# Altium footprint library 最新MT7688A测试板开发板库文件(AD打开).PcbLib: 28 footprints (part 2 of 2)
Each footprint in its own frame and in the unit in brackets; x right, y up, seen from the top. Pads: shape width x height; smd on the part's side, far side on the other; paste and mask are expansions set on the pad; w line width, h text height; cw(c..) or ccw(c..) is an arc to the next point about the centre after c.
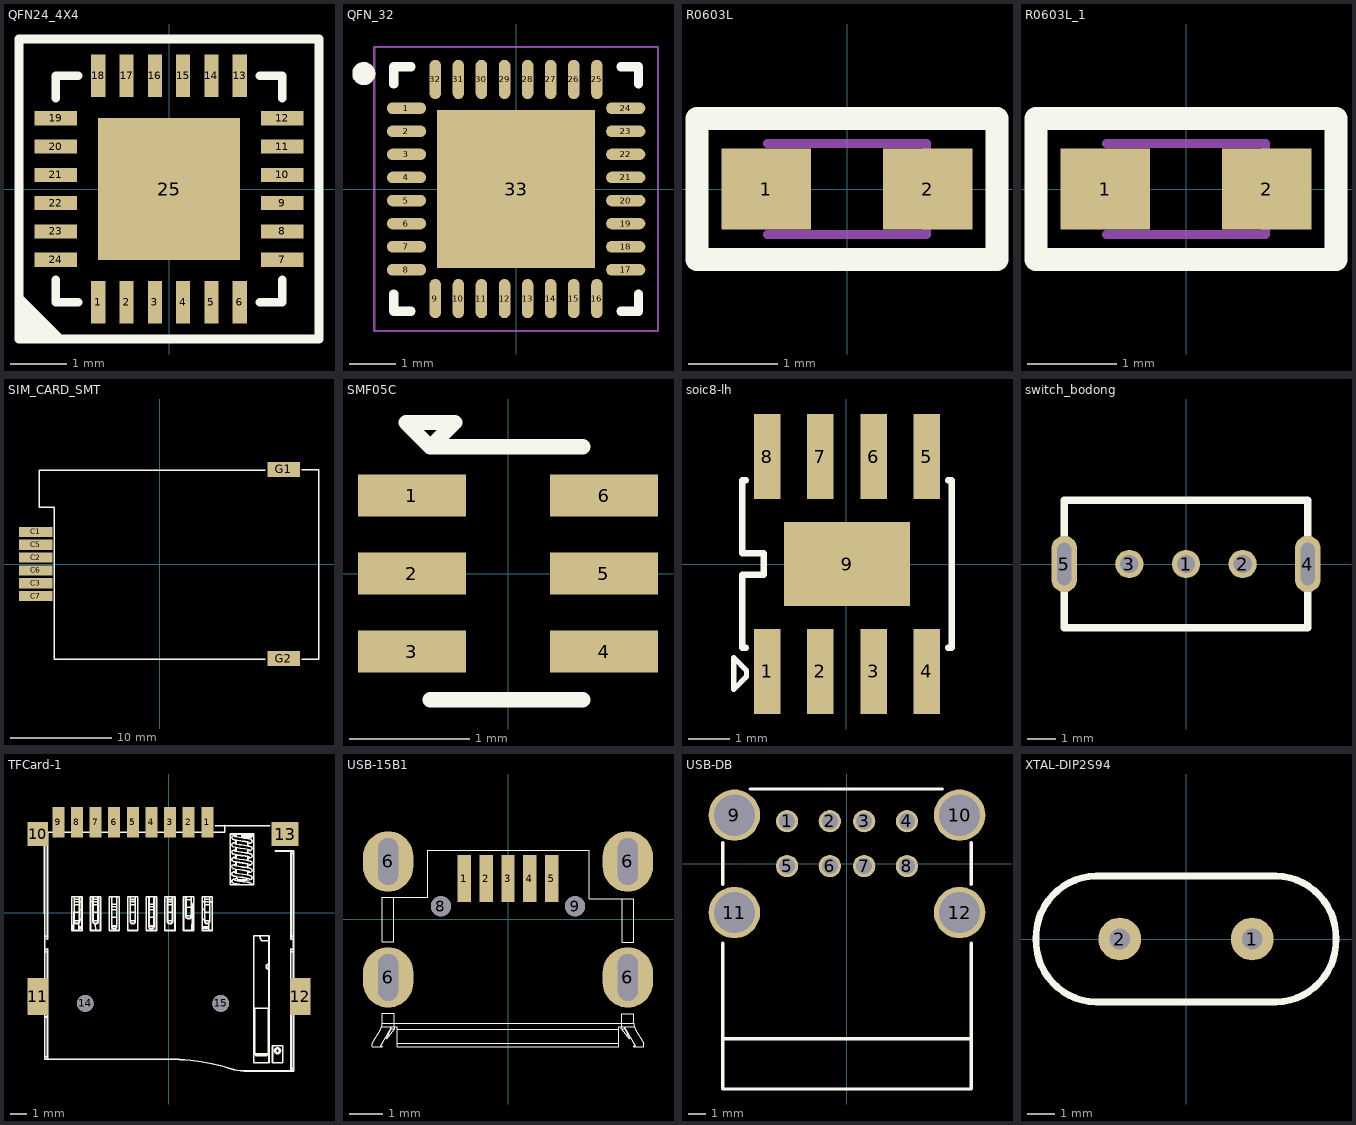
[diagram p1: the footprints below, top view; thin cyan lines are the x and y axes]

## QFN24_4X4 [mm]
height 5.08
pads (25):
  rect 0.25x0.75 smd: 1(-1.25,-2) 2(-0.75,-2) 3(-0.25,-2) 4(0.25,-2) 5(0.75,-2) 6(1.25,-2) 13(1.25,2) 14(0.75,2) 15(0.25,2) 16(-0.25,2) 17(-0.75,2) 18(-1.25,2)
  rect 0.75x0.25 smd: 7(2,-1.25) 8(2,-0.75) 9(2,-0.25) 10(2,0.25) 11(2,0.75) 12(2,1.25) 19(-2,1.25) 20(-2,0.75) 21(-2,0.25) 22(-2,-0.25) 23(-2,-0.75) 24(-2,-1.25)
  rect 2.5x2.5 smd: 25(0,0)
Top Overlay:
  lines w0.152: -2.65,-2.41 -2.47,-2.59 ; -2.62,-2.32 -2.33,-2.61 ; -2.62,-2.21 -2.23,-2.6 ; -2.61,-2.08 -2.1,-2.59 ; -2.61,-1.96 -1.96,-2.61 ; -2,-1.6 -2,-2 -1.6,-2 ; -2,1.6 -2,2 -1.6,2 ; 1.6,-2 2,-2 2,-1.6 ; 1.6,2 2,2 2,1.6 ; -2.65,-2.65 -2.65,2.65 2.65,2.65 2.65,-2.65 -2.65,-2.65

## QFN_32 [mm] "QFN, 32-Leads, Body 5.00x5.00mm, Pitch 0.50mm, Thermal Pad 3.43x3.43mm, IPC Medium Density"
height 1
pads (33):
  oval 0.85x0.25 smd: 1(-2.375,1.75) 2(-2.375,1.25) 3(-2.375,0.75) 4(-2.375,0.25) 5(-2.375,-0.25) 6(-2.375,-0.75) 7(-2.375,-1.25) 8(-2.375,-1.75) 17(2.375,-1.75) 18(2.375,-1.25) 19(2.375,-0.75) 20(2.375,-0.25) 21(2.375,0.25) 22(2.375,0.75) 23(2.375,1.25) 24(2.375,1.75)
  oval 0.25x0.85 smd: 9(-1.75,-2.375) 10(-1.25,-2.375) 11(-0.75,-2.375) 12(-0.25,-2.375) 13(0.25,-2.375) 14(0.75,-2.375) 15(1.25,-2.375) 16(1.75,-2.375) 25(1.75,2.375) 26(1.25,2.375) 27(0.75,2.375) 28(0.25,2.375) 29(-0.25,2.375) 30(-0.75,2.375) 31(-1.25,2.375) 32(-1.75,2.375)
  rect 3.43x3.43 smd: 33(0,0)
Top Overlay:
  circle w0.25: c-3.3,2.5 r0.125
  lines w0.2: -2.65,-2.275 -2.65,-2.65 -2.275,-2.65 ; -2.65,2.275 -2.65,2.65 -2.275,2.65 ; 2.275,-2.65 2.65,-2.65 2.65,-2.275 ; 2.275,2.65 2.65,2.65 2.65,2.275
Mechanical 15:
  lines w0.05: -3.075,-3.075 -3.075,3.075 3.075,3.075 3.075,-3.075 -3.075,-3.075
  lines w0.1: -0.5,0 0.5,0 ; 0,-0.5 0,0.5

## R0603L [mm] "Chip Inductor; Body 1.6x0.8mm (LxW typ)"
height 5.08
pads (2):
  rect 1x0.9 smd mask+0.075: 1(-0.9,0) 2(0.9,0)
Top Overlay:
  lines w0.254: -1.676,-0.787 -1.676,0.787 ; -1.651,-0.787 1.676,-0.787 1.676,0.787 -1.651,0.787
Mechanical 13:
  lines w0.1: -0.889,-0.508 0.889,-0.508 0.889,0.508 -0.889,0.508
3D body "User Library-RESC1608X05N.STEP": height 0.45, standoff 0, extent -0.775,-0.425 0.775,0.425

## R0603L_1 [mm] "Chip Inductor; Body 1.6x0.8mm (LxW typ)"
height 5.08
pads (2):
  rect 1x0.9 smd: 1(-0.9,0) 2(0.9,0)
Top Overlay:
  lines w0.254: -1.676,-0.787 -1.676,0.787 ; -1.651,-0.787 1.676,-0.787 1.676,0.787 -1.651,0.787
Mechanical 13:
  lines w0.1: -0.889,-0.508 0.889,-0.508 0.889,0.508 -0.889,0.508
3D body: height 0.45, standoff 0, extent -0.775,-0.425 0.775,0.425

## SIM_CARD_SMT [mm]
height 5.08
pads (8):
  rect 3.3x1 smd: C1(-12.25,3.175) C2(-12.25,0.635) C3(-12.25,-1.905) C5(-12.25,1.905) C6(-12.25,-0.635) C7(-12.25,-3.175)
  rect 3.2x1.5 smd: G1(12.25,9.35) G2(12.25,-9.35)
Top Overlay:
  lines w0.127: 10.416,9.285 -11.9,9.285 -11.9,5.596 -10.412,5.596 -10.412,-9.415 10.441,-9.415 ; 14.048,-9.415 15.75,-9.415 15.75,9.295 14.052,9.295

## SMF05C [mm]
height 5.08
pads (6):
  rect 0.9x0.35 smd: 1(-0.8,0.65) 2(-0.8,0) 3(-0.8,-0.65) 4(0.8,-0.65) 5(0.8,0) 6(0.8,0.65)
Top Overlay:
  lines w0.127: -0.648,-1.052 0.622,-1.052 ; 0.622,1.056 -0.648,1.056 ; -0.648,1.056 -0.444,1.26 -0.851,1.26 -0.648,1.056

## soic8-lh [mil] "SOIC8-LH"
height 200
pads (9):
  rect 25x80 smd: 1(-74.5,-101.06) 2(-24.5,-101.06) 3(25.5,-101.06) 4(75.5,-101.06) 5(75.5,101.06) 6(25.5,101.06) 7(-24.5,101.06) 8(-74.5,101.06)
  rect 118.11x78.74 smd: 9(0.5,0)
Top Overlay:
  lines w5: -106,-118 -106,-88 -93.93,-100.07 -93.93,-101.74 -93.93,-105.93 -106,-118
  lines w6: -94.5,-78.74 -97.93,-78.74 -97.93,-10 -77.93,-10 -77.93,10 -97.93,10 -97.93,78.74 -94.5,78.74 ; 95.5,-78.74 98.93,-78.74 98.93,78.74 95.5,78.74

## switch_bodong [mm]
height 5.08
pads (5):
  round 1 hole 0.65: 1(0,0) 2(2,0) 3(-2,0)
  oval 0.9x2 hole 0.5 slot 1.5 at 90 deg: 4(4.3,0) 5(-4.3,0)
Top Overlay:
  lines w0.254: -4.3,-2.25 4.3,-2.25 4.3,2.25 -4.3,2.25 -4.3,-2.25

## TFCard-1 [mm]
height 5.08
pads (15):
  rect 0.71x1.8 smd: 1(2.261,5.355) 2(1.161,5.355) 3(0.061,5.355) 4(-1.039,5.355) 5(-2.139,5.355) 6(-3.239,5.355) 7(-4.339,5.355) 8(-5.439,5.355) 9(-6.539,5.355)
  rect 1.21x1.4 smd: 10(-7.75,4.652)
  rect 1.2x2.2 smd: 11(-7.763,-4.95) 12(7.763,-4.954)
  rect 1.6x1.4 smd: 13(6.856,4.653)
  round 1 hole 1 unplated: 14(-4.948,-5.355) 15(3.058,-5.355)
Top Overlay:
  drawing of 553 lines, arcs and shapes, not listed

## USB-15B1 [mm]
height 5.08
pads (11):
  rect 0.4x1.4 smd: 1(-1.3,1.22) 2(-0.65,1.22) 3(0,1.22) 4(0.65,1.22) 5(1.3,1.22)
  oval 1.5x1.8 hole 0.6 slot 1.4 at 90 deg: 6(-3.575,-1.73) 6(-3.575,1.73) 6(3.575,-1.73) 6(3.575,1.73)
  round 0.6 hole 0.6 unplated: 8(-2,0.395)
  round 0.6 hole 0.6: 9(2,0.395)
Top Overlay:
  lines w0.025: -3.84,-1.863 -3.59,-1.863 ; -3.8,-3.795 -3.8,-3.764 ; -3.764,-3.195 -3.3,-3.195 -3.3,-3.795 3.3,-3.795 3.3,-3.195 3.764,-3.195 ; -3.5,-3.195 -3.5,-3.264 ; -3.477,-3.195 -3.477,-3.264 -3.612,-3.558 -3.383,-3.264 ; -3.4,-3.195 -3.4,-2.793 -3.75,-2.793 -3.75,-3.098 ; -3.383,-3.195 -3.383,-3.264 ; -3.3,-3.695 3.3,-3.695 ; -3.3,-3.278 3.3,-3.278 ; 3.383,-3.195 3.383,-3.264 ; 3.4,-3.195 3.4,-2.819 3.75,-2.819 3.75,-3.098 ; 3.404,0.62 3.404,-0.676 3.75,-0.676 3.75,0.62 2.429,0.62 2.429,2.058 -2.388,2.058 -2.388,0.661 -3.404,0.661 ; 3.477,-3.195 3.477,-3.264 3.612,-3.558 3.383,-3.264 ; 3.5,-3.195 3.5,-3.264 ; 3.8,-3.795 3.8,-3.764 ; -3.8,-3.764 -3.759,-3.764 -3.759,-3.795 -4.05,-3.795 -4.05,-3.695 -3.8,-3.278 ccw(c-4.1,-3.098) -3.75,-3.098 ; -3.8,-3.764 -3.5,-3.264 ; -3.75,-3.098 3.75,-3.098 ; -3.5,-3.264 -3.383,-3.264 ; -3.404,0.661 -3.404,-0.66 -3.75,-0.66 -3.75,0.661 -3.404,0.661 ; 3.383,-3.264 3.5,-3.264 ; 3.5,-3.264 3.8,-3.764 ; 3.75,-3.098 ccw(c4.1,-3.098) 3.8,-3.278 4.05,-3.695 4.05,-3.795 3.759,-3.795 3.759,-3.764 3.8,-3.764

## USB-DB [mm]
height 5.08
pads (12):
  round 1.3 hole 0.94: 1(-3.5,2.49) 2(-1,2.49) 3(1,2.49) 4(3.5,2.49) 5(-3.5,-0.13) 6(-1,-0.13) 7(1,-0.13) 8(3.5,-0.13)
  round 3 hole 2.4: 9(-6.57,2.84) 10(6.57,2.84) 11(-6.57,-2.84) 12(6.57,-2.84)
Top Overlay:
  lines w0.2: -7.25,-10.21 0,-10.21 7.25,-10.21 ; -7.25,-4.633 -7.25,-13.14 7.25,-13.14 7.25,-4.633 ; -7.25,-1.204 -7.25,1.245 ; -5.639,4.37 5.563,4.37 ; 7.25,-1.204 7.25,1.245

## XTAL-DIP2S94 [mil]
pads (2):
  round 62 hole 30: 1(96.06,0) 2(-96.06,0)
Top Overlay:
  lines w10: -217.52,0 cw(c-128.25,2.26) -130.51,91.54 130.51,91.54 cw(c128.25,2.26) 217.52,0 cw(c128.25,-2.26) 130.51,-91.54 -130.51,-91.54 cw(c-128.25,-2.26) -217.52,0